# EAGLE library part LTC4010 (library ICs)
High Efficiency Standalone Nickel Battery Charger, 5.5V to 34V, 2A
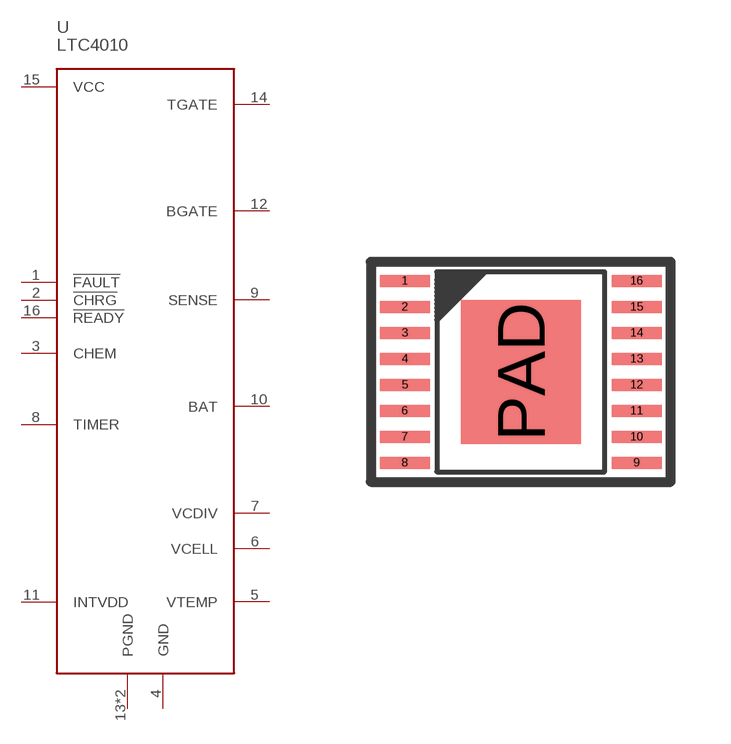
[diagram p146: symbol with the pads of HTSSOP16_LTC4010; footprint HTSSOP16_LTC4010]

Designator prefix U

## LTC4010 (DIGIKEY: LTC4010CFE#PBF-ND; PRICE_PER: 7.81; VALUE: LTC4090)  [HTSSOP16_LTC4010]
1  !FAULT
2  !CHRG
3  CHEM
4  GND
5  VTEMP
6  VCELL
7  VCDIV
8  TIMER
9  SENSE
10  BAT
11  INTVDD
12  BGATE
13  PGND
14  TGATE
15  VCC
16  !READY
PAD  PGND

## Footprint HTSSOP16_LTC4010 (pad centres in mm)
smd 1.25 x 0.3: 1 -2.9,2.275; 2 -2.9,1.625; 3 -2.9,0.975; 4 -2.9,0.325; 5 -2.9,-0.325; 6 -2.9,-0.975; 7 -2.9,-1.625; 8 -2.9,-2.275; 9 2.9,-2.275; 10 2.9,-1.625; 11 2.9,-0.975; 12 2.9,-0.325; 13 2.9,0.325; 14 2.9,0.975; 15 2.9,1.625; 16 2.9,2.275
smd 3 x 3.6: PAD 0,0